# EAGLE library part GAL16V8 (library Traficon)
High Performance E2CMOS PLD Generic Array Logic?
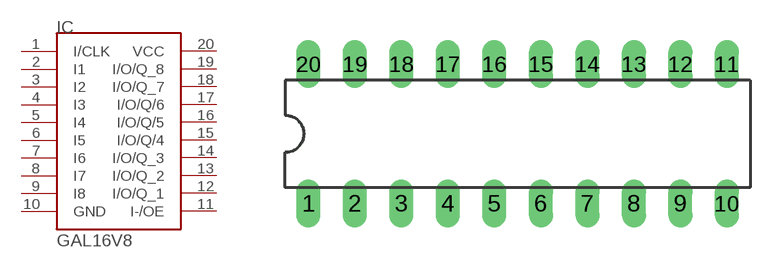
[diagram p30: symbol with the pads of DIL20; footprint DIL20]

Designator prefix IC

## GAL16V8  [DIL20]
1  I/CLK
2  I1
3  I2
4  I3
5  I4
6  I5
7  I6
8  I7
9  I8
10  GND  pas
11  I-/OE
12  I/O/Q_1
13  I/O/Q_2
14  I/O/Q_3
15  I/O/Q/4
16  I/O/Q/5
17  I/O/Q/6
18  I/O/Q_7
19  I/O/Q_8
20  VCC  pas

## Footprint DIL20 (pad centres in mm)
Dual In Line Package
drill 0.813 long: 1 -11.43,-3.81; 2 -8.89,-3.81; 3 -6.35,-3.81; 4 -3.81,-3.81; 5 -1.27,-3.81; 6 1.27,-3.81; 7 3.81,-3.81; 8 6.35,-3.81; 9 8.89,-3.81; 10 11.43,-3.81; 11 11.43,3.81; 12 8.89,3.81; 13 6.35,3.81; 14 3.81,3.81; 15 1.27,3.81; 16 -1.27,3.81; 17 -3.81,3.81; 18 -6.35,3.81; 19 -8.89,3.81; 20 -11.43,3.81